# Altium schematic symbol library p mosfet.SchLib: 1 symbol
Pins are listed as number, name and electrical type; pins without a type are passive.

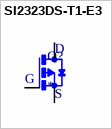
[diagram p0: symbol SI2323DS-T1-E3]

## SI2323DS-T1-E3
designator Q?
MOSFET, Power,P-Ch,VDSS -20V,RDS(ON) 0.031Ohm,ID -3.7A,TO-236 (SOT-23),PD 0.75W | Siliconix / Vishay SI2323DS-T1-E3; MF: Vishay Siliconix; SnapEDA_Link: https://www.snapeda.com/parts/SI2323DS-T1-E3/Vishay/view-part/?ref=snap; Package: SOT-23-3 Vishay Siliconix; Value: *; MP: SI2323DS-T1-E3; Check_prices: https://www.snapeda.com/parts/SI2323DS-T1-E3/Vishay/view-part/?ref=eda
footprint SOT23
pins: 1 G, 2 S, 3 D